# Altium footprint library Board.PcbLib: 17 footprints (part 2 of 2)
Each footprint in its own frame and in the unit in brackets; x right, y up, seen from the top. Pads: shape width x height; smd on the part's side, far side on the other; paste and mask are expansions set on the pad; w line width, h text height; cw(c..) or ccw(c..) is an arc to the next point about the centre after c.
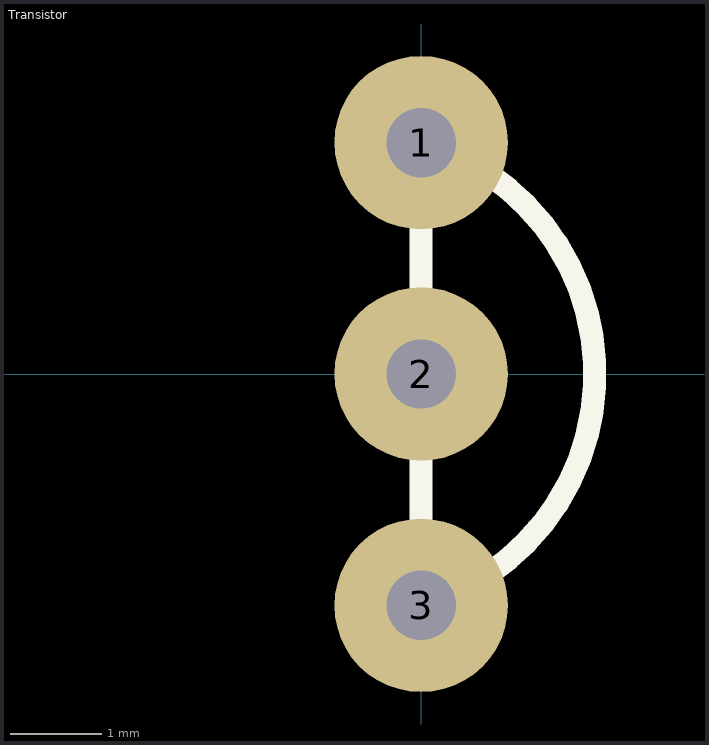
[diagram p1: the footprint, top view; thin cyan lines are the x and y axes]

## Transistor [mil]
pads (3):
  round 75 hole 30: 1(0,100) 2(0,0) 3(0,-100)
Top Overlay:
  lines w10: 0,0 0,-100 ; 30,100 0,100 ; 0,-100 ccw(c-29,0) 0,100 ; 0,-100 0,100